# Altium footprint library PCB.PcbLib: 224 footprints (part 2 of 14)
Each footprint in its own frame and in the unit in brackets; x right, y up, seen from the top. Pads: shape width x height; smd on the part's side, far side on the other; paste and mask are expansions set on the pad; w line width, h text height; cw(c..) or ccw(c..) is an arc to the next point about the centre after c.
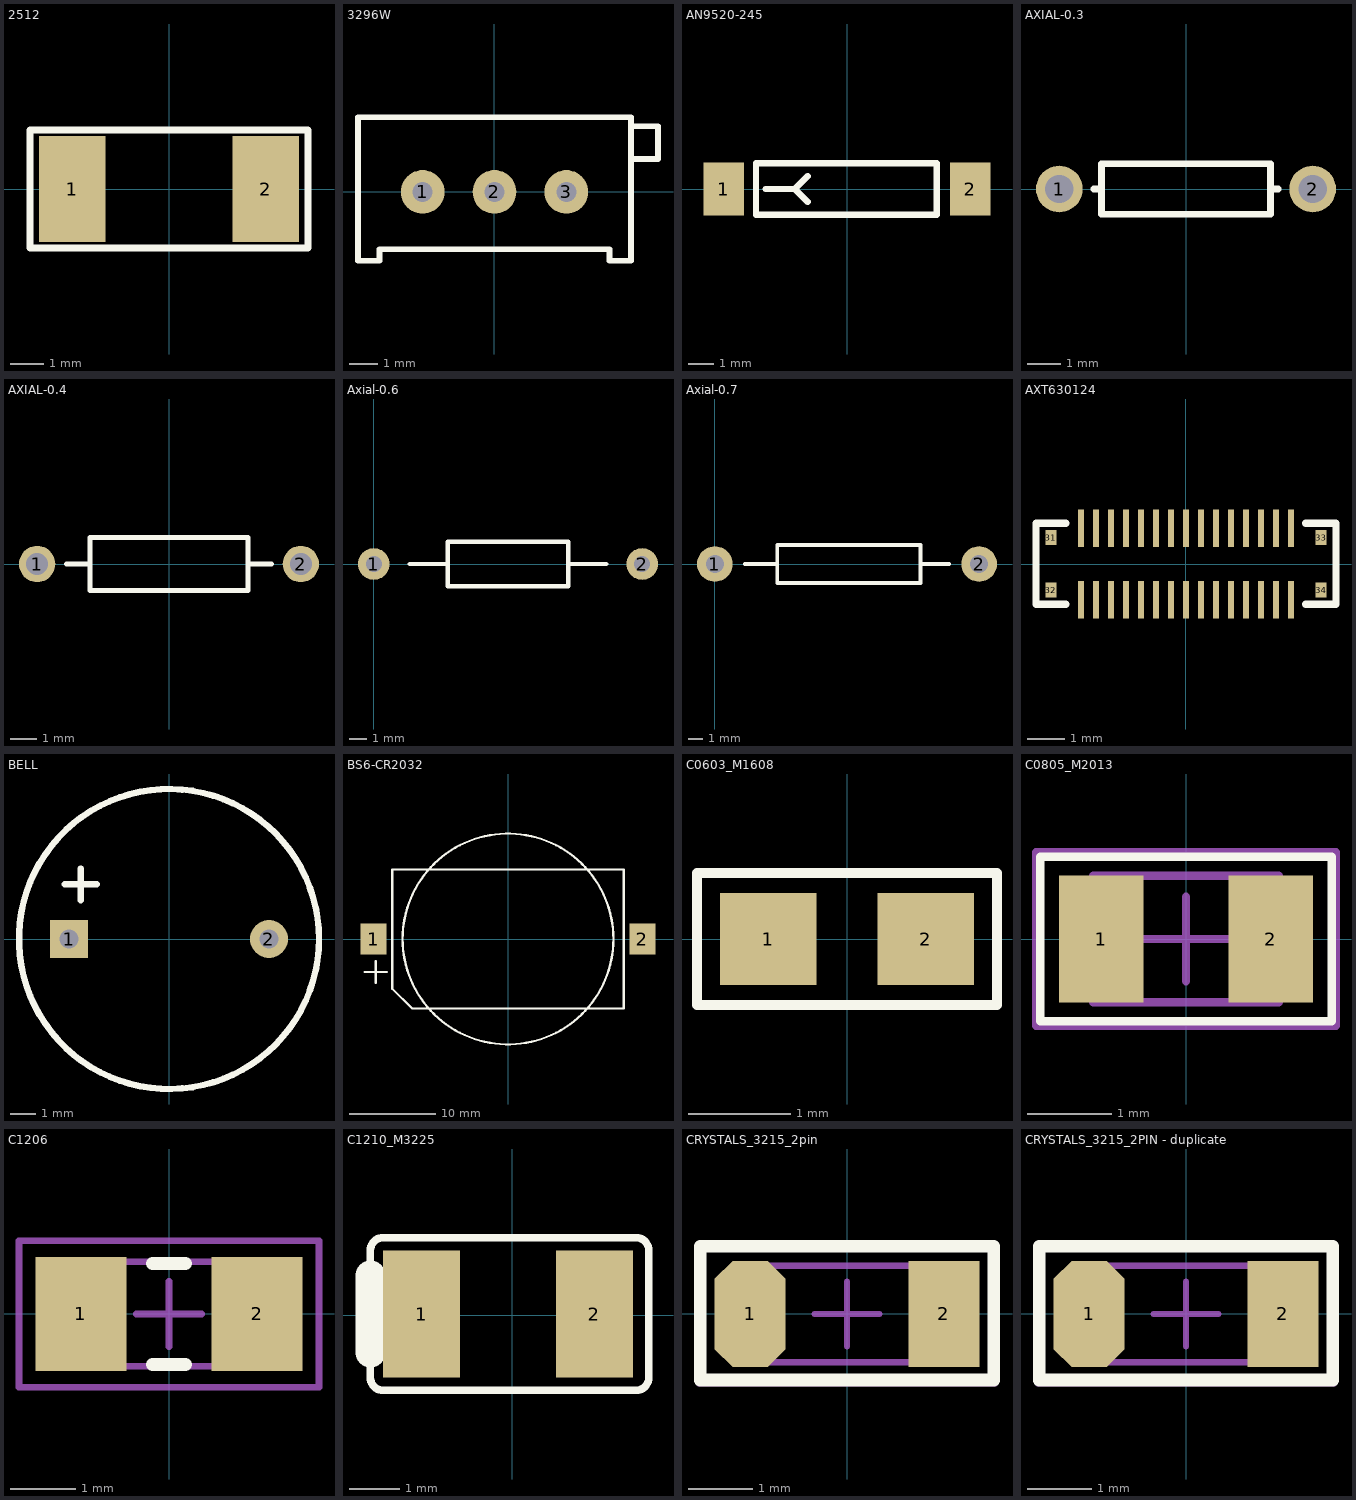
[diagram p1: the footprints below, top view; thin cyan lines are the x and y axes]

## 2512 [mm]
pads (2):
  rect 2x3.2 smd: 1(-2.921,0) 2(2.921,0)
Top Overlay:
  lines w0.2: -4.191,-1.778 -4.191,1.778 4.191,1.778 4.191,-1.778 -4.191,-1.778

## 3296W [mm]
height 12
pads (3):
  round 1.52 hole 0.7: 1(-2.5,0) 2(0,0) 3(2.5,0)
Top Overlay:
  lines w0.2: 4.75,1.143 5.69,1.143 5.69,2.286 4.775,2.286 ; -4.75,-2.4 -4,-2.4 -4,-2 4,-2 4,-2.4 4.75,-2.4 4.75,2.6 -4.75,2.6 -4.75,-2.4

## AN9520-245 [mm]
pads (2):
  rect 1.6x2.1 smd: 1(-4.85,0) 2(4.85,0)
Top Overlay:
  lines w0.254: -3.199,0 -2.056,0 ; -1.548,-0.508 -2.056,0 ; -1.548,0.508 -2.056,0 ; -3.58,-1.016 -3.58,1.016 -3.072,1.016 3.532,1.016 3.532,-1.016 -3.58,-1.016

## AXIAL-0.3 [mm]
pads (2):
  round 1.4 hole 0.85: 1(-3.81,0) 2(3.81,0)
Top Overlay:
  lines w0.2: -2.769,0 -2.54,0 ; 2.769,0 2.54,0 ; 2.54,0 2.54,-0.762 -2.54,-0.762 -2.54,0.762 2.54,0.762 2.54,0

## AXIAL-0.4 [mm]
pads (2):
  round 1.4 hole 0.85: 1(-5.08,0) 2(5.08,0)
Top Overlay:
  lines w0.2: -3.937,0 -3.048,0 ; 3.048,0 3.937,0 ; -3.048,-1.016 3.048,-1.016 3.048,1.016 -3.048,1.016 -3.048,-1.016

## Axial-0.6 [mm]
pads (2):
  round 1.8 hole 0.9: 1(0,0) 2(15.24,0)
Top Overlay:
  lines w0.254: 2.032,0 4.191,0 ; 11.049,0 13.208,0 ; 4.191,0 4.191,1.27 11.049,1.27 11.049,-1.27 4.191,-1.27 4.191,0

## Axial-0.7 [mm]
pads (2):
  round 2.4 hole 1.2: 1(0,0) 2(17.78,0)
Top Overlay:
  lines w0.254: 2.032,0 4.191,0 ; 13.843,0 15.748,0 ; 4.191,0 4.191,-1.27 13.843,-1.27 13.843,1.27 4.191,1.27 4.191,0

## AXT630124 [mm]
pads (34):
  rect 0.15x1 smd: 1(2.8,-0.95) 2(2.8,0.95) 3(2.4,-0.95) 4(2.4,0.95) 5(2,-0.95) 6(2,0.95) 7(1.6,-0.95) 8(1.6,0.95) 9(1.2,-0.95) 10(1.2,0.95) 11(0.8,-0.95) 12(0.8,0.95) 13(0.4,-0.95) 14(0.4,0.95) 15(0,-0.95) 16(0,0.95) 17(-0.4,-0.95) 18(-0.4,0.95) 19(-0.8,-0.95) 20(-0.8,0.95) 21(-1.2,-0.95) 22(-1.2,0.95) 23(-1.6,-0.95) 24(-1.6,0.95) 25(-2,-0.95) 26(-2,0.95) 27(-2.4,-0.95) 28(-2.4,0.95) 29(-2.8,-0.95) 30(-2.8,0.95)
  rect 0.3x0.4 smd: 31(-3.6,0.701) 32(-3.6,-0.696) 33(3.6,0.701) 34(3.6,-0.696)
Top Overlay:
  lines w0.2: -3.2,-1.077 -4,-1.077 -4,1.082 -3.2,1.082 ; 3.2,-1.077 4,-1.077 4,1.082 3.2,1.082

## BELL [mil]
height 389.76
pads (2):
  rect 60x60 hole 30: 1(-157.48,0)
  round 60 hole 30: 2(157.48,0)
Top Overlay:
  circle w10: c0,0 r236.22
  lines w10: -164,86 -124,86 -114,86 ; -139,61 -139,73.5 -139,98.5 -139,111

## BS6-CR2032 [mm]
pads (2):
  rect 3x3.6 smd: 1(-15.494,0) 2(15.494,0)
Top Overlay:
  circle w0.254: c0,0 r12.153
  lines w0.254: -16.51,-3.81 -13.97,-3.81 ; -15.24,-5.08 -15.24,-2.54 ; -13.335,-5.74 -13.335,7.999 13.335,7.999 13.335,-8.001 -11.074,-8.001 -13.335,-5.74

## C0603_M1608 [mm] "Chip Capacitor, 2-Leads, Body 1.6x0.8mm, IPC Medium Density"
height 0.55
pads (2):
  rect 0.95x0.9 smd: 1(-0.775,0) 2(0.775,0)
Top Overlay:
  lines w0.1: -1.475,-0.65 1.475,-0.65 1.475,0.65 -1.475,0.65 -1.475,-0.65

## C0805_M2013 [mm] "Chip Capacitor, 2-Leads, Body 2.0x1.3mm, IPC Medium Density"
height 0.9
pads (2):
  rect 1x1.5 smd: 1(-1,0) 2(1,0)
Top Overlay:
  lines w0.1: -1.725,-0.975 1.725,-0.975 1.725,0.975 -1.725,0.975 -1.725,-0.975
Mechanical 13:
  lines w0.1: -1.1,-0.75 -1.1,0.75 1.1,0.75 1.1,-0.75 -1.1,-0.75
Mechanical 15:
  lines w0.1: -0.5,0 0.5,0 ; 0,-0.5 0,0.5 ; -1.775,-1.025 -1.775,1.025 1.775,1.025 1.775,-1.025 -1.775,-1.025
3D body: height 0.9, standoff 0, extent -1.1,-0.75 1.1,0.75

## C1206 [mm]
height 1.6
pads (2):
  rect 1.4x1.75 smd: 1(-1.35,0) 2(1.35,0)
Top Overlay:
  lines w0.2: -0.25,-0.775 0.25,-0.775 ; -0.25,0.775 0.25,0.775
Mechanical 13:
  lines w0.1: -1.6,-0.8 1.6,-0.8 1.6,0.8 -1.6,0.8 -1.6,-0.8
Mechanical 15:
  lines w0.1: -0.5,0 0.5,0 ; 0,-0.5 0,0.5 ; -2.3,-1.125 2.3,-1.125 2.3,1.125 -2.3,1.125 -2.3,-1.125
3D body: height 1.6, standoff 0, extent -1.6,-0.8 1.6,0.8

## C1210_M3225 [mm]
pads (2):
  rect 1.524x2.524 smd: 1(-1.8,0.025) 2(1.629,0.025)
Top Overlay:
  lines w0.15: -1.292,1.541 2.454,1.541 ; 2.426,-1.491 -1.292,-1.491 2.454,-1.491
  lines w0.152: -2.816,-0.737 -2.816,-1.237 ccw(c-2.562,-1.237) -2.562,-1.491 -1.292,-1.491 ; -2.816,0.787 -2.816,1.287 cw(c-2.562,1.287) -2.562,1.541 -1.292,1.541 ; 2.454,-1.491 ccw(c2.454,-1.237) 2.708,-1.237 ; 2.454,1.541 cw(c2.454,1.287) 2.708,1.287 2.708,-1.209
  lines w0.6: -2.816,-0.737 -2.816,0.787

## CRYSTALS_3215_2pin [mm] "Chip Capacitor, 2-Leads, Body 3.2x1.5mm, IPC Medium Density"
height 0.75
pads (2):
  oct 1.1x1.65 smd: 1(-1.5,0)
  rect 1.1x1.65 smd: 2(1.5,0)
Top Overlay:
  lines w0.1: 2.25,-1.025 2.275,-1.025
  lines w0.2: 2.25,-1.025 -2.275,-1.025 -2.275,1.05 2.275,1.05 2.275,-1.025
Mechanical 13:
  lines w0.1: -1.6,-0.75 -1.6,0.75 1.6,0.75 1.6,-0.75 -1.6,-0.75
Mechanical 15:
  lines w0.1: -0.5,0 0.5,0 ; 0,-0.5 0,0.5 ; -2.3,-1.075 -2.3,1.075 2.3,1.075 2.3,-1.075 -2.3,-1.075
3D body: height 0.75, standoff 0, extent -1.6,-0.75 1.6,0.75

## CRYSTALS_3215_2PIN - duplicate [mm] "Chip Capacitor, 2-Leads, Body 3.2x1.5mm, IPC Medium D"
height 0.75
pads (2):
  oct 1.1x1.65 smd: 1(-1.5,0)
  rect 1.1x1.65 smd: 2(1.5,0)
Top Overlay:
  lines w0.1: 2.25,-1.025 2.275,-1.025
  lines w0.2: 2.25,-1.025 -2.275,-1.025 -2.275,1.05 2.275,1.05 2.275,-1.025
Mechanical 13:
  lines w0.1: -1.6,-0.75 -1.6,0.75 1.6,0.75 1.6,-0.75 -1.6,-0.75
Mechanical 15:
  lines w0.1: -0.5,0 0.5,0 ; 0,-0.5 0,0.5 ; -2.3,-1.075 -2.3,1.075 2.3,1.075 2.3,-1.075 -2.3,-1.075
3D body: height 0.75, standoff 0, extent -1.6,-0.75 1.6,0.75